# EAGLE library part 741C083 (library pandaLight)
4 element chip resistor array
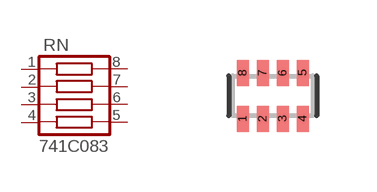
[diagram p14: symbol with the pads of 741C083; footprint 741C083]

Designator prefix RN

## 741C083  [741C083]
1  1  pas
2  2  pas
3  3  pas
4  4  pas
5  5  pas
6  6  pas
7  7  pas
8  8  pas

## Footprint 741C083 (pad centres in mm)
smd 0.3 x 0.65: 1 -0.75,-0.575; 2 -0.25,-0.575; 3 0.25,-0.575; 4 0.75,-0.575; 5 0.75,0.575; 6 0.25,0.575; 7 -0.25,0.575; 8 -0.75,0.575